# Altium schematic symbol library STB75NF75T4.SchLib: 1 symbol
Pins are listed as number, name and electrical type; pins without a type are passive.

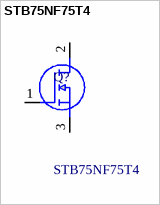
[diagram p0: symbol STB75NF75T4]

## STB75NF75T4
designator Q?
N-channel 75V - 0.0095 - 80A - TO-220 - TO-220FP - D2PAK STripFET II Power MOSFET; Manufacturer_Name: STMicroelectronics; Geometry.Height: 4.83mm; Manufacturer_Part_Number: STB75NF75T4; Mouser Part Number: 511-STB75NF75T4; Mouser Price/Stock: https://www.mouser.co.uk/ProductDetail/STMicroelectronics/STB75NF75T4?qs=av1OShNpRtkAwQFRiv7p6g%3D%3D; Arrow Part Number: STB75NF75T4; Arrow Price/Stock: https://www.arrow.com/en/products/stb75nf75t4/stmicroelectronics; Datasheet Link: https://www.st.com/resource/en/datasheet/stb75nf75.pdf
footprint STB75NF75T4
pins: 1 G, 2 D, 3 S